# EAGLE library part ADG736 (library IC)
Analog Devices ADG736 CMOS Low Voltage 2.5ohm SPDT Switch
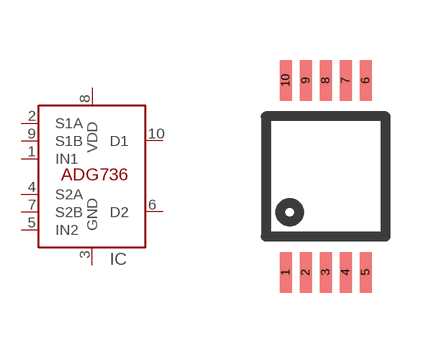
[diagram p152: symbol with the pads of MSOP-10; footprint MSOP-10]

Designator prefix IC

## ADG736  [MSOP-10]
1  IN1
2  S1A
3  GND  pwr
4  S2A
5  IN2
6  D2
7  S2B
8  VDD  pwr
9  S1B
10  D1

## Footprint MSOP-10 (pad centres in mm)
MSOP-10, National Semiconductor package number MUB10A
smd 0.3 x 1.02: 1 -1,-2.4; 2 -0.5,-2.4; 3 0,-2.4; 4 0.5,-2.4; 5 1,-2.4; 6 1,2.4; 7 0.5,2.4; 8 0,2.4; 9 -0.5,2.4; 10 -1,2.4